# EAGLE library part LTC1063 (library seismo)
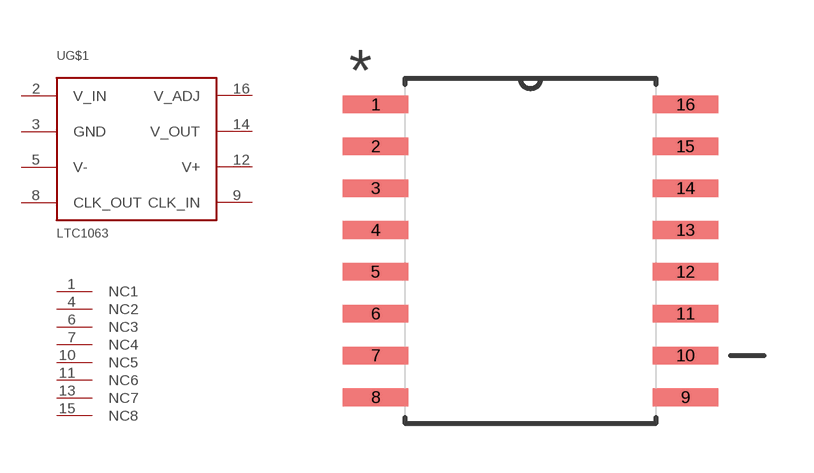
[diagram p0: symbol with the pads of SOIC127P1032X264-16N; footprint SOIC127P1032X264-16N]

Designator prefix U; gates G$1=LTC1063 G$2=LTC1063_NC

## LTC1063  [SOIC127P1032X264-16N]
1  G$2:NC1  nc
2  G$1:V_IN  in
3  G$1:GND  pwr
4  G$2:NC2  nc
5  G$1:V-  pwr
6  G$2:NC3  nc
7  G$2:NC4  nc
8  G$1:CLK_OUT  out
9  G$1:CLK_IN  in
10  G$2:NC5  nc
11  G$2:NC6  nc
12  G$1:V+  pwr
13  G$2:NC7  nc
14  G$1:V_OUT  out
15  G$2:NC8  nc
16  G$1:V_ADJ  in

## Footprint SOIC127P1032X264-16N (pad centres in mm)
smd 1.981 x 0.533: 1 -4.699,4.445; 2 -4.699,3.175; 3 -4.699,1.905; 4 -4.699,0.635; 5 -4.699,-0.635; 6 -4.699,-1.905; 7 -4.699,-3.175; 8 -4.699,-4.445; 9 4.699,-4.445; 10 4.699,-3.175; 11 4.699,-1.905; 12 4.699,-0.635; 13 4.699,0.635; 14 4.699,1.905; 15 4.699,3.175; 16 4.699,4.445